# EAGLE library part ADAFRUITUSER_PINHD-1X6*? (library Wifi Gas Sensor)
PIN HEADER
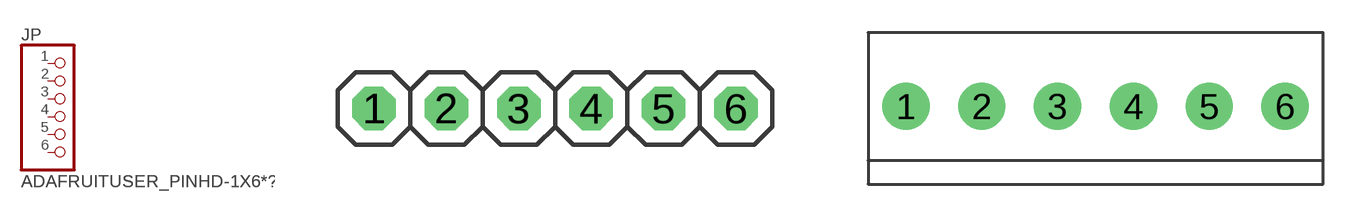
[diagram p5: symbol with the pads of ADAFRUITUSER_1X06; footprints ADAFRUITUSER_1X06, ADAFRUITUSER_1X06-3.5MM]

Designator prefix JP

## ADAFRUITUSER_PINHD-1X6  [ADAFRUITUSER_1X06]
1  1  pas
2  2  pas
3  3  pas
4  4  pas
5  5  pas
6  6  pas

## ADAFRUITUSER_PINHD-1X6-3.5MM  [ADAFRUITUSER_1X06-3.5MM]
Pads as for ADAFRUITUSER_1X06

## ADAFRUITUSER_PINHD-1X6B  [ADAFRUITUSER_1X06-BIG]
Pads as for ADAFRUITUSER_1X06

## ADAFRUITUSER_PINHD-1X6CB  [ADAFRUITUSER_1X06-CLEANBIG]
Pads as for ADAFRUITUSER_1X06

## ADAFRUITUSER_PINHD-1X6CLEAN  [ADAFRUITUSER_1X06-CLEAN]
Pads as for ADAFRUITUSER_1X06

## ADAFRUITUSER_PINHD-1X6LOCK  [ADAFRUITUSER_1X06-BIGLOCK]
Pads as for ADAFRUITUSER_1X06

## Footprint ADAFRUITUSER_1X06 (pad centres in mm)
PIN HEADER
drill 1.016 octagon: 1 -6.35,0; 2 -3.81,0; 3 -1.27,0; 4 1.27,0; 5 3.81,0; 6 6.35,0

## Footprint ADAFRUITUSER_1X06-3.5MM (pad centres in mm)
drill 1 pad 2.184: 1 -8.75,0; 2 -5.25,0; 3 -1.75,0; 4 1.75,0; 5 5.25,0; 6 8.75,0

## Footprint ADAFRUITUSER_1X06-BIG (pad centres in mm)
drill 0.7 pad 1.93 octagon: 1 -6.35,0; 2 -3.81,0; 3 -1.27,0; 4 1.27,0; 5 3.81,0; 6 6.35,0

## Footprint ADAFRUITUSER_1X06-CLEANBIG (pad centres in mm)
drill 1.016 pad 1.778 octagon: 1 -6.35,0; 2 -3.81,0; 3 -1.27,0; 4 1.27,0; 5 3.81,0; 6 6.35,0

## Footprint ADAFRUITUSER_1X06-CLEAN (pad centres in mm)
drill 1.016 octagon: 1 -6.35,0; 2 -3.81,0; 3 -1.27,0; 4 1.27,0; 5 3.81,0; 6 6.35,0

## Footprint ADAFRUITUSER_1X06-BIGLOCK (pad centres in mm)
drill 1.016 pad 1.778 octagon: 1 -6.35,0.127; 2 -3.81,-0.127; 3 -1.27,0.127; 4 1.27,-0.127; 5 3.81,0.127; 6 6.35,-0.127